# Altium schematic symbol library SCH - CONNECTORS - TE ZIF 4-1734592-0.SCHLIB: 2 symbols
Pins are listed as number, name and electrical type; pins without a type are passive.

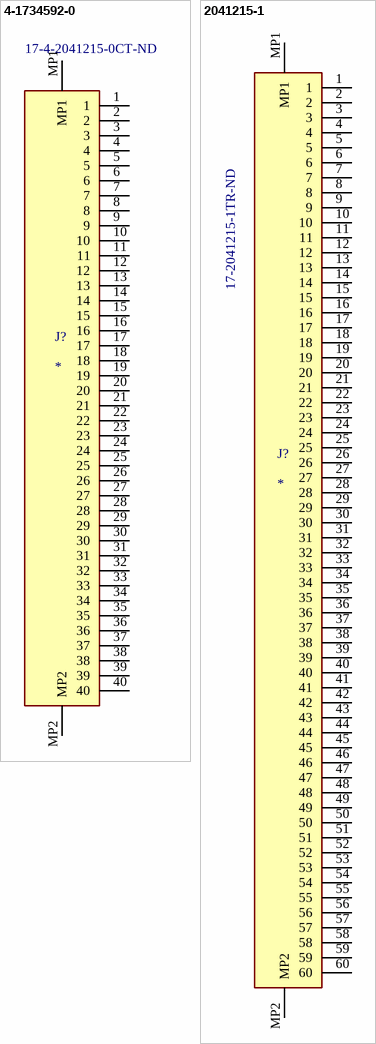
[diagram p0: symbols 4-1734592-0 to 2041215-1]

## 4-1734592-0
designator J?  Supplier Part Number 1: 17-4-2041215-0CT-ND
Connector; Manufacturer_Name: TE Connectivity; Manufacturer_Part_Number: 4-1734592-0; Manufacturer 1: TE Connectivity AMP; Manufacturer Part Number 1: 4-2041215-0; Datasheet Link: https://www.te.com/commerce/DocumentDelivery/DDEController?Action=showdoc&DocId=Customer+Drawing%7F1734592%7FC%7Fpdf%7FEnglish%7FENG_CD_1734592_C_C_1734592.pdf%7F1-1734592-8; Height: 2.05mm; Mouser Part Number: 571-4-1734592-0; Mouser Price/Stock: https://www.mouser.com/Search/Refine.aspx?Keyword=571-4-1734592-0; RS Part Number: 1864997; RS Price/Stock: http://uk.rs-online.com/web/p/products/1864997; Supplier 1: Digi-Key; RoHS: No; Stock 1: 5388; Pricing 1: 1=1,71000, 10=1,55100, 25=1,45560, 50=1,39240, 100=1,32920, 250=1,20256, 500=1,10762 (USD)
footprint 420412150
pins: 1, 2, 3, 4, 5, 6, 7, 8, 9, 10, 11, 12, 13, 14, 15, 16, 17, 18, 19, 20, 21, 22, 23, 24, 25, 26, 27, 28, 29, 30, 31, 32, 33, 34, 35, 36, 37, 38, 39, 40, MP1, MP2

## 2041215-1
designator J?  Supplier Part Number 1: 17-2041215-1TR-ND
Connector; Manufacturer_Name: TE Connectivity; Manufacturer_Part_Number: 2041215-1; Description: FFC & FPC Connectors; Allied_Number: 71834925; Contact Current Rating: 500mA; Connector Type: Receptacle,Connector,Socket; Wire/Cable Type: Flat Flex; Connector System: Flex-to-Board; Mating Alignment: Yes (With); Number of Positions: 1; PCB Mount Alignment: No (Without); PCB Mount Retention: With; PCB Mounting Orientation: Right Angle; Shielding: Unshielded; Pitch: 0.5mm; Datasheet Link: https://www.mouser.com/datasheet/2/418/NG_CD_2041215_C-1627659.pdf; Height: 2.75mm; Mouser Part Number: 571-2041215-1; Mouser Price/Stock: https://www.mouser.com/Search/Refine.aspx?Keyword=571-2041215-1; Allied Price/Stock: https://www.alliedelec.com/teconnectivity-2041215-1/71834925/; Supplier 1: Digi-Key; Manufacturer 1: TE Connectivity; Manufacturer Part Number 1: 2041215-1; RoHS: No; Category: Connectors; Stock 1: 5400; Pricing 1: 1800=1,32644, 3600=1,28071, 5400=1,21667, 9000=1,18923 (USD); Contact Material: Bronze; Contact Plating: Gold; Housing Color: Natural; Housing Material: Polymer; Min Operating Temperature: -40°C; Max Operating Temperature: 85°C; Number of Rows: 1; Packaging: Tape and Reel; Package Quantity: 1800; Sealable: No (Without); Shrouded: Yes (With); Termination: SMD/SMT; Length: 1.374inch; Width: 0.299inch
footprint 20412151
pins: 1, 2, 3, 4, 5, 6, 7, 8, 9, 10, 11, 12, 13, 14, 15, 16, 17, 18, 19, 20, 21, 22, 23, 24, 25, 26, 27, 28, 29, 30, 31, 32, 33, 34, 35, 36, 37, 38, 39, 40, 41, 42, 43, 44, 45, 46, 47, 48, 49, 50, 51, 52, 53, 54, 55, 56, 57, 58, 59, 60, MP1, MP2